# Altium footprint library AB0016.01.A.1.PcbLib: 1 footprints
Each footprint in its own frame and in the unit in brackets; x right, y up, seen from the top. Pads: shape width x height; smd on the part's side, far side on the other; paste and mask are expansions set on the pad; w line width, h text height; cw(c..) or ccw(c..) is an arc to the next point about the centre after c.
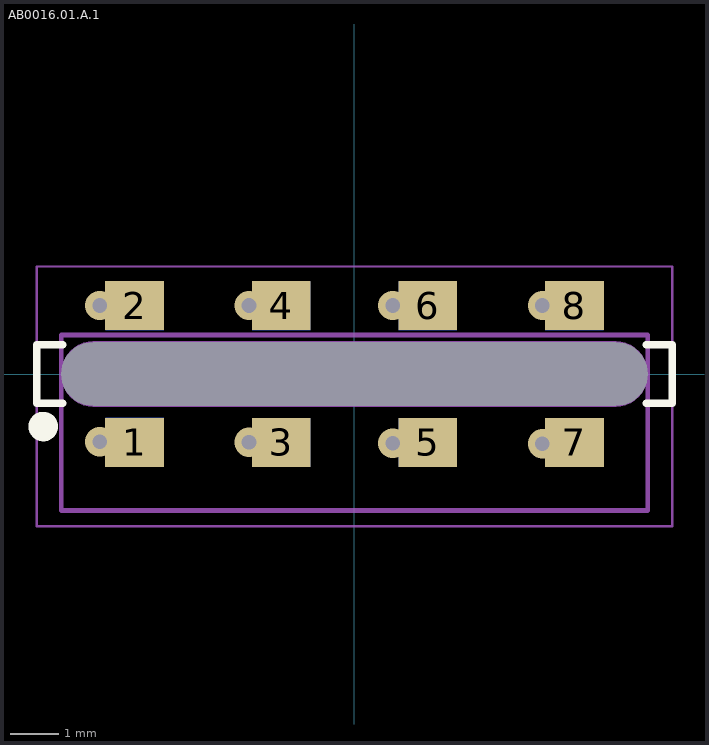
[diagram p0: the footprint, top view; thin cyan lines are the x and y axes]

## AB0016.01.A.1 [mm]
height 4.1
pads (9):
  round 0 hole 1.3 slot 12 at 0 deg unplated: 0(0,0)
  rect 1.2x1 smd: 1(-4.5,-1.4) 2(-4.5,1.4) 3(-1.5,-1.4) 4(-1.5,1.4) 5(1.5,-1.4) 6(1.5,1.4) 7(4.5,-1.4) 8(4.5,1.4)
via 0.785,-1.42 diameter 0.6 hole 0.3
via 0.785,1.4 diameter 0.6 hole 0.3
via -5.214,1.4 diameter 0.6 hole 0.3
via -2.159,1.4 diameter 0.6 hole 0.3
via 3.845,1.4 diameter 0.6 hole 0.3
via -2.159,-1.397 diameter 0.6 hole 0.3
via 3.845,-1.429 diameter 0.6 hole 0.3
via -5.214,-1.383 diameter 0.6 hole 0.3
Bottom Layer:
  rectangle: -5.097,0.894 -3.897,1.894
  rectangle: 0.898,0.894 2.098,1.894
  rectangle: 0.898,-1.9 2.098,-0.9
  rectangle: -5.097,-1.894 -3.897,-0.894
  rectangle: -2.1,0.894 -0.9,1.894
  rectangle: 3.896,0.894 5.096,1.894
  rectangle: -2.1,-1.898 -0.9,-0.898
  rectangle: 3.896,-1.898 5.096,-0.898
Top Overlay:
  circle w0.3: c-6.368,-1.075 r0.152
  lines w0.152: -5.969,-0.6 -6.5,-0.6 -6.5,0.6 -5.969,0.6 ; 5.969,-0.6 6.5,-0.6 6.5,0.6 5.969,0.6
Mechanical 1:
  lines w0.05: -5.35,-0.65 5.35,-0.65 ; -5.35,0.65 5.35,0.65 ; -5.334,-0.65 cw(c-5.334,0) -5.984,0 cw(c-5.334,0) -5.334,0.65 ; 5.334,-0.65 ccw(c5.334,0) 5.984,0 ccw(c5.334,0) 5.334,0.65
Mechanical 13:
  lines w0.1: -6,-2.792 6,-2.792 6,0.8 -6,0.8 -6,-2.792
Mechanical 15:
  lines w0.05: -6.5,-3.117 6.5,-3.117 6.5,2.2 -6.5,2.2 -6.5,-3.117
3D body: height 4.1, standoff 0, extent -6,-2.792 6,0.618